# Altium schematic symbol library ROUNDRECT_TEST.SchLib: 1 symbol
Pins are listed as number, name and electrical type; pins without a type are passive.

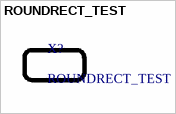
[diagram p0: symbol ROUNDRECT_TEST]

## ROUNDRECT_TEST
designator X?
Rounded rectangle test